# Altium footprint library VGA,RJ11.PcbLib: 7 footprints
Each footprint in its own frame and in the unit in brackets; x right, y up, seen from the top. Pads: shape width x height; smd on the part's side, far side on the other; paste and mask are expansions set on the pad; w line width, h text height; cw(c..) or ccw(c..) is an arc to the next point about the centre after c.
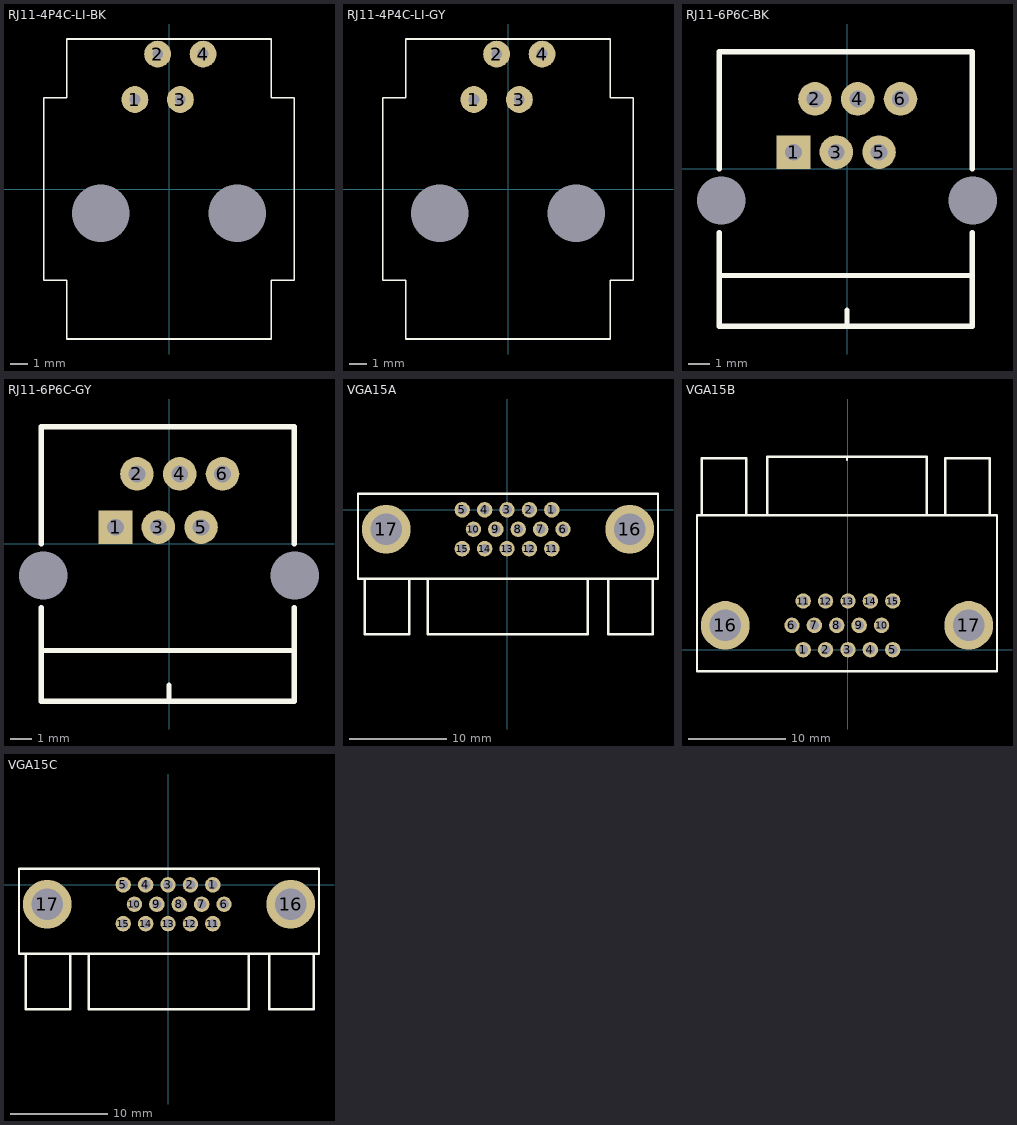
[diagram p0: the footprints below, top view; thin cyan lines are the x and y axes]

## RJ11-4P4C-LI-BK [mm] "16.5mm*13.8mm*16.38mm(长*宽*高)"
pads (6):
  round 0 hole 3.2: 0(-3.81,-1.35) 0(3.81,-1.35)
  round 1.5 hole 0.6: 1(-1.905,5) 2(-0.635,7.54) 3(0.635,5) 4(1.905,7.54)
Top Overlay:
  lines w0.1: -7,-5.1 -5.715,-5.1 -5.715,-8.382 5.715,-8.382 5.715,-5.1 7,-5.1 7,5.1 5.715,5.1 5.715,8.382 -5.715,8.382 -5.715,5.1 -7,5.1 -7,-5.1
3D body "RJ11-4P4C-BK.STEP": height 16.38, standoff -3.2, extent -6.9,-8.25 6.9,8.25

## RJ11-4P4C-LI-GY [mm] "16.5mm*13.8mm*16.38mm(长*宽*高)"
pads (6):
  round 0 hole 3.2: 0(-3.81,-1.35) 0(3.81,-1.35)
  round 1.5 hole 0.6: 1(-1.905,5) 2(-0.635,7.54) 3(0.635,5) 4(1.905,7.54)
Top Overlay:
  lines w0.1: -7,-5.1 -7,5.1 -5.715,5.1 -5.715,8.382 5.715,8.382 5.715,5.1 7,5.1 7,-5.1 5.715,-5.1 5.715,-8.382 -5.715,-8.382 -5.715,-5.1 -7,-5.1
3D body "RJ11-4P4C-GY.STEP": height 16.38, standoff -3.2, extent -6.9,-8.25 6.9,8.25

## RJ11-6P6C-BK [mm] "12mm*12mm*14.55mm(长*宽*高)"
pads (8):
  round 0 hole 2.3: 0(-6,-1.5) 0(6,-1.5)
  rect 1.6x1.6 hole 0.8: 1(-2.55,0.8)
  round 1.6 hole 0.8: 2(-1.53,3.34) 3(-0.51,0.8) 4(0.51,3.34) 5(1.53,0.8) 6(2.55,3.34)
Top Overlay:
  lines w0.254: -6.096,-5.08 5.969,-5.08 ; -6.096,-3.048 -6.096,-7.5 5.969,-7.5 5.969,-3.048 ; -6.096,0 -6.096,5.588 5.969,5.588 5.969,0 ; 0,-7.5 0,-6.731
3D body "RJ11-6P6C-WI-BK.STEP": height 14.6, standoff -3.45, extent -7.15,-7.5 7.15,5.5

## RJ11-6P6C-GY [mm] "12mm*12mm*14.55mm(长*宽*高)"
pads (8):
  round 0 hole 2.3: 0(-6,-1.5) 0(6,-1.5)
  rect 1.6x1.6 hole 0.8: 1(-2.55,0.8)
  round 1.6 hole 0.8: 2(-1.53,3.34) 3(-0.51,0.8) 4(0.51,3.34) 5(1.53,0.8) 6(2.55,3.34)
Top Overlay:
  lines w0.254: -6.096,-5.08 5.969,-5.08 ; -6.096,-3.048 -6.096,-7.5 5.969,-7.5 5.969,-3.048 ; -6.096,0 -6.096,5.588 5.969,5.588 5.969,0 ; 0,-7.5 0,-6.731
3D body "RJ11-6P6C-WI-GY.STEP": height 14.6, standoff -3.45, extent -7.15,-7.5 7.15,5.5

## VGA15A [mm] "15针通讯接口"
pads (17):
  round 1.58 hole 1: 1(4.6,0) 2(2.3,0) 3(0,0) 4(-2.3,0) 5(-4.6,0) 6(5.75,-1.992) 7(3.45,-1.992) 8(1.15,-1.992) 9(-1.15,-1.992) 10(-3.45,-1.992) 11(4.6,-3.984) 12(2.3,-3.984) 13(0,-3.984) 14(-2.3,-3.984) 15(-4.6,-3.984)
  round 5 hole 3.25: 16(12.6,-1.992) 17(-12.4,-1.992)
Top Overlay:
  lines w0.254: -14.605,-7.087 -14.605,-12.751 -10.025,-12.751 -10.025,-7.087 ; -8.125,-7.061 -8.125,-12.751 8.275,-12.751 8.275,-7.137 ; 10.405,-7.061 10.405,-12.751 14.975,-12.751 14.975,-7.061 ; -15.3,-7.061 -15.3,1.629 15.5,1.629 15.5,-7.061 -15.3,-7.061
Mechanical 15:
  circle w0.05: c0,0 r0.35
  lines w0.05: -0.5,0 0.5,0 ; 0,-0.5 0,0.5
3D body "User Library-SLIM D-SUB RIGHT ANGLE PCB MOUNT.step": height 10.75, standoff -2.59, extent -15.397,-12.395 15.403,1.075

## VGA15B [mm] "15针通讯接口"
pads (17):
  round 1.58 hole 1: 1(-4.6,0) 2(-2.3,0) 3(0,0) 4(2.3,0) 5(4.6,0) 6(-5.75,2.5) 7(-3.45,2.5) 8(-1.15,2.5) 9(1.15,2.5) 10(3.45,2.5) 11(-4.6,5) 12(-2.3,5) 13(0,5) 14(2.3,5) 15(4.6,5)
  round 5 hole 3.25: 16(-12.6,2.5) 17(12.4,2.5)
Top Overlay:
  lines w0.254: -15.5,-2.2 -15.5,13.8 15.3,13.8 15.3,-2.2 -15.49,-2.2 -15.5,-2.19 ; -15,13.8 -15,19.67 -10.43,19.67 -10.43,13.82 ; -8.3,13.8 -8.3,19.8 8.1,19.8 8.1,13.8 ; -0.1,19.5 -0.1,19.8 ; 10,13.8 10,19.68 14.58,19.68 14.58,13.84
Mechanical 15:
  circle w0.05: c0,0 r0.35
  lines w0.05: -0.5,0 0.5,0 ; 0,-0.5 0,0.5
3D body "SW3dPS-Connector, D-Sub, 15 pin HD, RA, Receptacle.STEP": height 12.77, standoff -3.27, extent -15.655,-0.875 15.155,20.225

## VGA15C [mm] "15针通讯接口"
pads (17):
  round 1.58 hole 1: 1(4.6,0) 2(2.3,0) 3(0,0) 4(-2.3,0) 5(-4.6,0) 6(5.75,-1.992) 7(3.45,-1.992) 8(1.15,-1.992) 9(-1.15,-1.992) 10(-3.45,-1.992) 11(4.6,-3.984) 12(2.3,-3.984) 13(0,-3.984) 14(-2.3,-3.984) 15(-4.6,-3.984)
  round 5 hole 3.25: 16(12.6,-1.992) 17(-12.4,-1.992)
Top Overlay:
  lines w0.254: -14.605,-7.087 -14.605,-12.751 -10.025,-12.751 -10.025,-7.087 ; -8.125,-7.061 -8.125,-12.751 8.275,-12.751 8.275,-7.137 ; 10.405,-7.061 10.405,-12.751 14.975,-12.751 14.975,-7.061 ; -15.3,-7.061 -15.3,1.629 15.5,1.629 15.5,-7.061 -15.3,-7.061
Mechanical 15:
  circle w0.05: c0,0 r0.35
  lines w0.05: -0.5,0 0.5,0 ; 0,-0.5 0,0.5
3D body "User Library-VGA connector on plate (short).STEP": height 12.77, standoff -3.69, extent -15.146,-13.843 15.654,1.057